# Altium schematic symbol library 08EB8267-D17E-4CFC-99BC-5B4E19CA83B1_TI-CD40109B-16.SchLib: 1 symbol
Pins are listed as number, name and electrical type; pins without a type are passive.

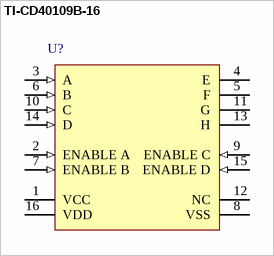
[diagram p0: symbol TI-CD40109B-16]

## TI-CD40109B-16
designator U?
pins: 1 VCC (power), 2 ENABLE A (in), 3 A (in), 4 E (hiz), 5 F (hiz), 6 B (in), 7 ENABLE B (in), 8 VSS (power), 9 ENABLE C (in), 10 C (in), 11 G (hiz), 12 NC, 13 H (hiz), 14 D (in), 15 ENABLE D (in), 16 VDD (power)